# EAGLE library part AD7993 (library mike)
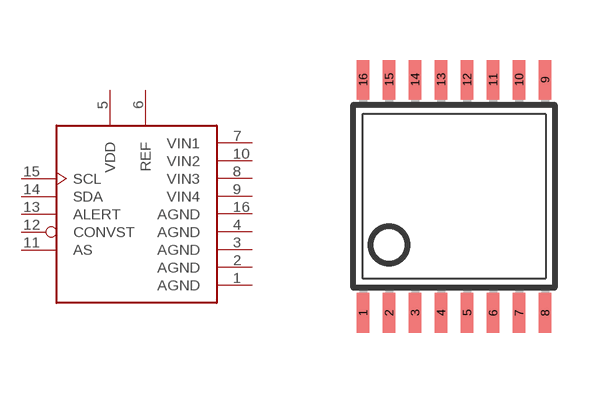
[diagram p12: symbol with the pads of TSSOP16; footprint TSSOP16]

Designator prefix IC

## AD7993  [TSSOP16]
1  AGND  pwr
2  AGND  pwr
3  AGND  pwr
4  AGND  pwr
5  VDD  pwr
6  REF  pas
7  VIN1  pas
8  VIN3  pas
9  VIN4  pas
10  VIN2  pas
11  AS  in
12  CONVST  in
13  ALERT  oc
14  SDA  oc
15  SCL  in
16  AGND  pwr

## Footprint TSSOP16 (pad centres in mm)
Thin Shrink Small Outline Plastic 16 MAX3223-MAX3243.pdf
smd 0.305 x 0.991: 1 -2.275,-2.918; 2 -1.625,-2.918; 3 -0.975,-2.918; 4 -0.325,-2.918; 5 0.325,-2.918; 6 0.975,-2.918; 7 1.625,-2.918; 8 2.275,-2.918; 9 2.275,2.918; 10 1.625,2.918; 11 0.975,2.918; 12 0.325,2.918; 13 -0.325,2.918; 14 -0.975,2.918; 15 -1.625,2.918; 16 -2.275,2.918